# Altium footprint library temporary.PcbLib: 61 footprints (part 3 of 4)
Each footprint in its own frame and in the unit in brackets; x right, y up, seen from the top. Pads: shape width x height; smd on the part's side, far side on the other; paste and mask are expansions set on the pad; w line width, h text height; cw(c..) or ccw(c..) is an arc to the next point about the centre after c.
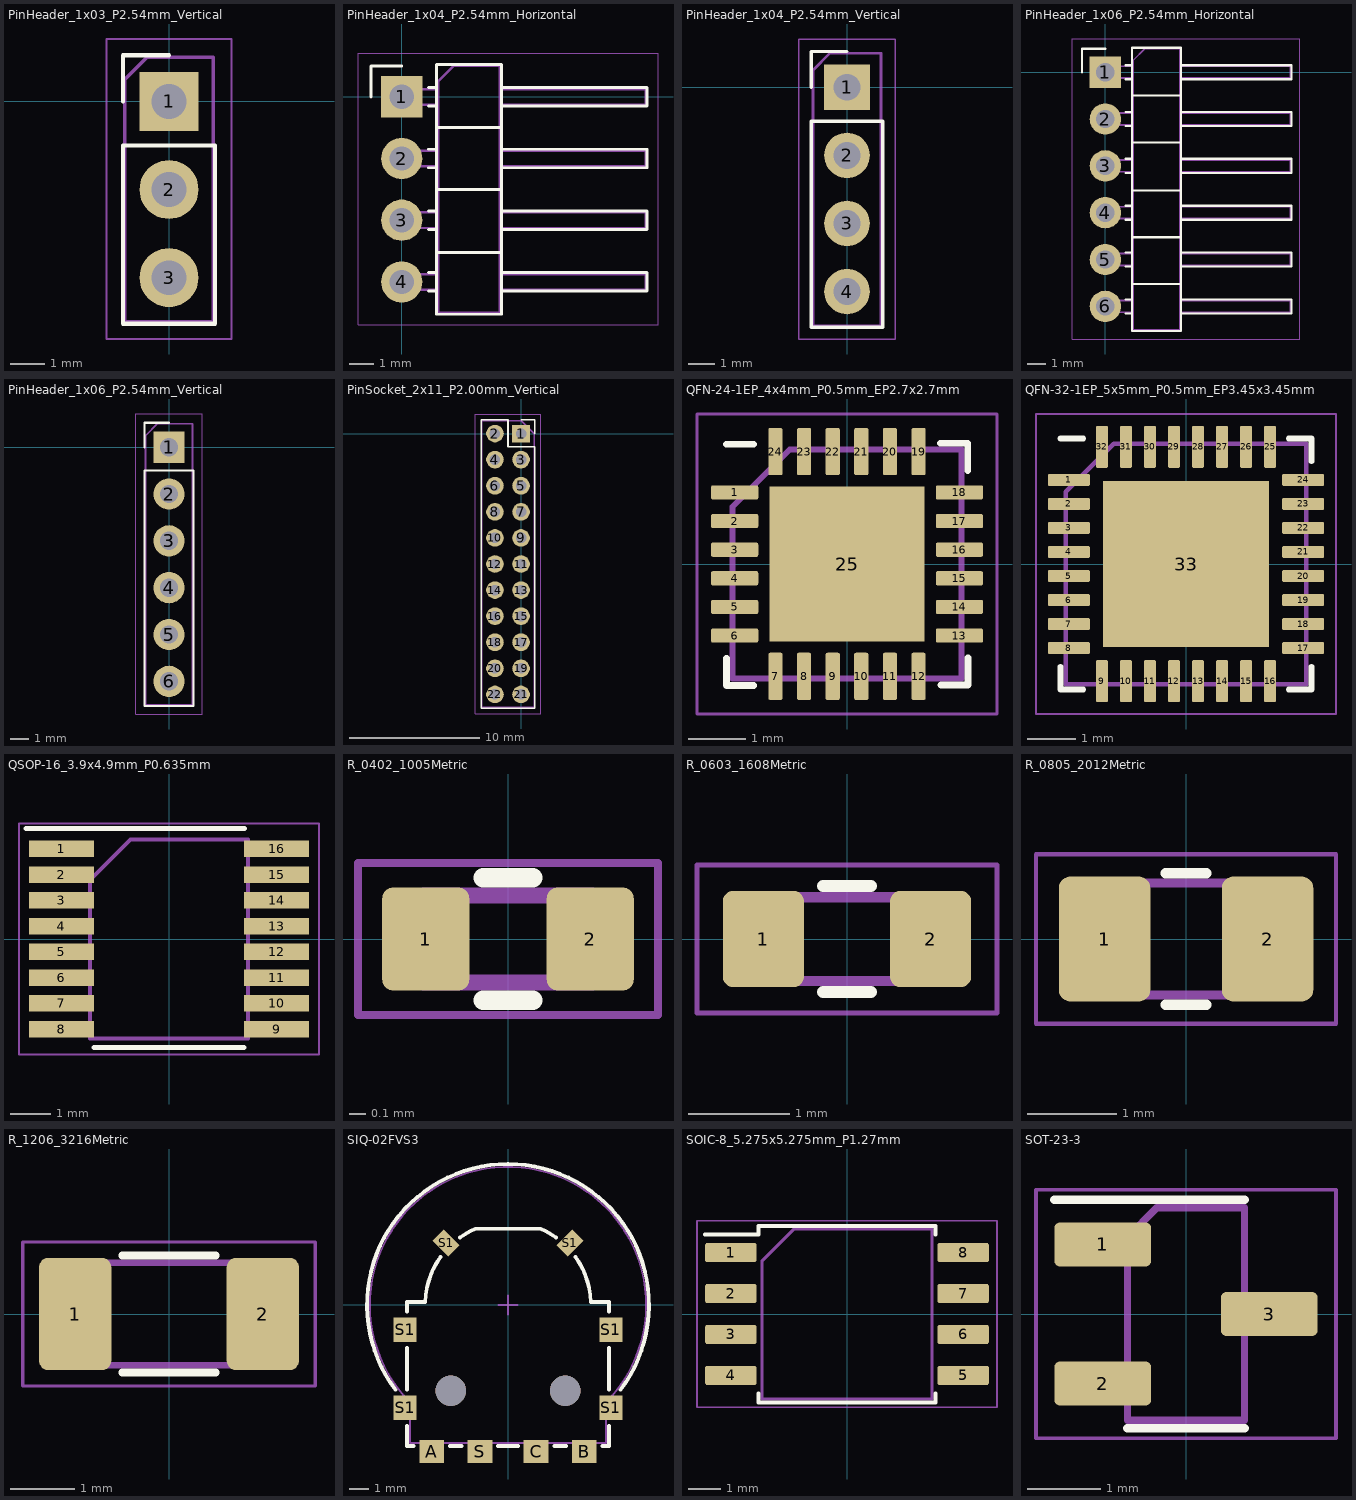
[diagram p2: the footprints below, top view; thin cyan lines are the x and y axes]

## PinHeader_1x03_P2.54mm_Vertical [mm]
pads (3):
  rect 1.7x1.7 hole 1: 1(0,0)
  round 1.7 hole 1: 2(0,-2.54) 3(0,-5.08)
Top Overlay:
  lines w0.12: -1.33,0 -1.33,1.33 0,1.33 ; -1.33,-6.41 -1.33,-1.27 1.33,-1.27 1.33,-6.41 -1.33,-6.41
Mechanical 13:
  lines w0.1: -1.27,-6.35 -1.27,0.635 -0.635,1.27 1.27,1.27 1.27,-6.35 -1.27,-6.35
Mechanical 15:
  lines w0.05: -1.8,-6.85 1.8,-6.85 1.8,1.8 -1.8,1.8 -1.8,-6.85
3D body "PinHeader_1x03_P2.54mm_Vertical.step": height 8.54, standoff -3, extent -1.27,-6.35 1.27,1.27

## PinHeader_1x04_P2.54mm_Horizontal [mm]
pads (4):
  rect 1.7x1.7 hole 1: 1(0,0)
  round 1.7 hole 1: 2(0,-2.54) 3(0,-5.08) 4(0,-7.62)
Top Overlay:
  lines w0.12: -1.27,0 -1.27,1.27 0,1.27 ; 1.11,-8 1.44,-8 ; 1.11,-7.24 1.44,-7.24 ; 1.11,-5.46 1.44,-5.46 ; 1.11,-4.7 1.44,-4.7 ; 1.11,-2.92 1.44,-2.92 ; 1.11,-2.16 1.44,-2.16 ; 1.11,-0.38 1.44,-0.38 ; 1.11,0.38 1.44,0.38 ; 1.44,-6.41 4.1,-6.41 ; 1.44,-3.81 4.1,-3.81 ; 1.44,-1.27 4.1,-1.27 ; 4.1,-8 10.1,-8 10.1,-7.24 4.1,-7.24 ; 4.1,-5.46 10.1,-5.46 10.1,-4.7 4.1,-4.7 ; 4.1,-2.92 10.1,-2.92 10.1,-2.16 4.1,-2.16 ; 4.1,-0.38 10.1,-0.38 10.1,0.38 4.1,0.38 ; 1.44,-8.95 4.1,-8.95 4.1,1.33 1.44,1.33 1.44,-8.95
Mechanical 13:
  lines w0.1: 1.5,-7.94 -0.32,-7.94 -0.32,-7.3 1.5,-7.3 ; 1.5,-5.4 -0.32,-5.4 -0.32,-4.76 1.5,-4.76 ; 1.5,-2.86 -0.32,-2.86 -0.32,-2.22 1.5,-2.22 ; 1.5,-0.32 -0.32,-0.32 -0.32,0.32 1.5,0.32 ; 4.04,-7.94 10.04,-7.94 10.04,-7.3 4.04,-7.3 ; 4.04,-5.4 10.04,-5.4 10.04,-4.76 4.04,-4.76 ; 4.04,-2.86 10.04,-2.86 10.04,-2.22 4.04,-2.22 ; 4.04,-0.32 10.04,-0.32 10.04,0.32 4.04,0.32 ; 1.5,-8.89 1.5,0.635 2.135,1.27 4.04,1.27 4.04,-8.89 1.5,-8.89
Mechanical 15:
  lines w0.05: -1.8,-9.39 -1.8,1.8 10.55,1.8 10.55,-9.39 -1.8,-9.39
3D body "PinHeader_1x04_P2.54mm_Horizontal.step": height 2.54, standoff -3, extent -0.32,-8.89 10.04,1.27

## PinHeader_1x04_P2.54mm_Vertical [mm]
pads (4):
  rect 1.7x1.7 hole 1: 1(0,0)
  round 1.7 hole 1: 2(0,-2.54) 3(0,-5.08) 4(0,-7.62)
Top Overlay:
  lines w0.12: -1.33,0 -1.33,1.33 0,1.33 ; -1.33,-8.95 -1.33,-1.27 1.33,-1.27 1.33,-8.95 -1.33,-8.95
Mechanical 13:
  lines w0.1: -1.27,-8.89 -1.27,0.635 -0.635,1.27 1.27,1.27 1.27,-8.89 -1.27,-8.89
Mechanical 15:
  lines w0.05: -1.8,-9.39 1.8,-9.39 1.8,1.8 -1.8,1.8 -1.8,-9.39
3D body "PinHeader_1x04_P2.54mm_Vertical.step": height 8.54, standoff -3, extent -1.27,-8.89 1.27,1.27

## PinHeader_1x06_P2.54mm_Horizontal [mm]
pads (6):
  rect 1.7x1.7 hole 1: 1(0,0)
  round 1.7 hole 1: 2(0,-2.54) 3(0,-5.08) 4(0,-7.62) 5(0,-10.16) 6(0,-12.7)
Top Overlay:
  lines w0.12: -1.27,0 -1.27,1.27 0,1.27 ; 1.11,-13.08 1.44,-13.08 ; 1.11,-12.32 1.44,-12.32 ; 1.11,-10.54 1.44,-10.54 ; 1.11,-9.78 1.44,-9.78 ; 1.11,-8 1.44,-8 ; 1.11,-7.24 1.44,-7.24 ; 1.11,-5.46 1.44,-5.46 ; 1.11,-4.7 1.44,-4.7 ; 1.11,-2.92 1.44,-2.92 ; 1.11,-2.16 1.44,-2.16 ; 1.11,-0.38 1.44,-0.38 ; 1.11,0.38 1.44,0.38 ; 1.44,-11.49 4.1,-11.49 ; 1.44,-8.95 4.1,-8.95 ; 1.44,-6.41 4.1,-6.41 ; 1.44,-3.81 4.1,-3.81 ; 1.44,-1.27 4.1,-1.27 ; 4.1,-13.08 10.1,-13.08 10.1,-12.32 4.1,-12.32 ; 4.1,-10.54 10.1,-10.54 10.1,-9.78 4.1,-9.78 ; 4.1,-8 10.1,-8 10.1,-7.24 4.1,-7.24 ; 4.1,-5.46 10.1,-5.46 10.1,-4.7 4.1,-4.7 ; 4.1,-2.92 10.1,-2.92 10.1,-2.16 4.1,-2.16 ; 4.1,-0.38 10.1,-0.38 10.1,0.38 4.1,0.38 ; 1.44,-14.03 4.1,-14.03 4.1,1.33 1.44,1.33 1.44,-14.03
Mechanical 13:
  lines w0.1: 1.5,-13.02 -0.32,-13.02 -0.32,-12.38 1.5,-12.38 ; 1.5,-10.48 -0.32,-10.48 -0.32,-9.84 1.5,-9.84 ; 1.5,-7.94 -0.32,-7.94 -0.32,-7.3 1.5,-7.3 ; 1.5,-5.4 -0.32,-5.4 -0.32,-4.76 1.5,-4.76 ; 1.5,-2.86 -0.32,-2.86 -0.32,-2.22 1.5,-2.22 ; 1.5,-0.32 -0.32,-0.32 -0.32,0.32 1.5,0.32 ; 4.04,-13.02 10.04,-13.02 10.04,-12.38 4.04,-12.38 ; 4.04,-10.48 10.04,-10.48 10.04,-9.84 4.04,-9.84 ; 4.04,-7.94 10.04,-7.94 10.04,-7.3 4.04,-7.3 ; 4.04,-5.4 10.04,-5.4 10.04,-4.76 4.04,-4.76 ; 4.04,-2.86 10.04,-2.86 10.04,-2.22 4.04,-2.22 ; 4.04,-0.32 10.04,-0.32 10.04,0.32 4.04,0.32 ; 1.5,-13.97 4.04,-13.97 4.04,1.27 2.135,1.27 1.5,0.635 1.5,-13.97
Mechanical 15:
  lines w0.05: -1.8,-14.47 10.55,-14.47 10.55,1.8 -1.8,1.8 -1.8,-14.47
3D body "PinHeader_1x06_P2.54mm_Horizontal.step": height 2.54, standoff -3, extent -0.32,-13.97 10.04,1.27

## PinHeader_1x06_P2.54mm_Vertical [mm]
pads (6):
  rect 1.7x1.7 hole 1: 1(0,0)
  round 1.7 hole 1: 2(0,-2.54) 3(0,-5.08) 4(0,-7.62) 5(0,-10.16) 6(0,-12.7)
Top Overlay:
  lines w0.12: -1.33,0 -1.33,1.33 0,1.33 ; -1.33,-14.03 -1.33,-1.27 1.33,-1.27 1.33,-14.03 -1.33,-14.03
Mechanical 13:
  lines w0.1: -1.27,-13.97 -1.27,0.635 -0.635,1.27 1.27,1.27 1.27,-13.97 -1.27,-13.97
Mechanical 15:
  lines w0.05: -1.8,-14.47 1.8,-14.47 1.8,1.8 -1.8,1.8 -1.8,-14.47
3D body "PinHeader_1x06_P2.54mm_Vertical.step": height 8.54, standoff -3, extent -1.27,-13.97 1.27,1.27

## PinSocket_2x11_P2.00mm_Vertical [mm]
pads (22):
  rect 1.35x1.35 hole 0.8: 1(0,0)
  round 1.35 hole 0.8: 2(-2,0) 3(0,-2) 4(-2,-2) 5(0,-4) 6(-2,-4) 7(0,-6) 8(-2,-6) 9(0,-8) 10(-2,-8) 11(0,-10) 12(-2,-10) 13(0,-12) 14(-2,-12) 15(0,-14) 16(-2,-14) 17(0,-16) 18(-2,-16) 19(0,-18) 20(-2,-18) 21(0,-20) 22(-2,-20)
Top Overlay:
  lines w0.12: 0,1.06 1.06,1.06 1.06,0 ; -3.06,-21.06 1.06,-21.06 1.06,-1 -1,-1 -1,1.06 -3.06,1.06 -3.06,-21.06
Mechanical 13:
  lines w0.1: -3,-21 1,-21 1,0 0,1 -3,1 -3,-21
Mechanical 15:
  lines w0.05: -3.5,-21.5 1.5,-21.5 1.5,1.5 -3.5,1.5 -3.5,-21.5
3D body "PinSocket_2x11_P2.00mm_Vertical.step": height 5.6, standoff -2.7, extent -3,-21 1,1

## QFN-24-1EP_4x4mm_P0.5mm_EP2.7x2.7mm [mm]
pads (25):
  rrect25% 0.825x0.25 smd: 1(-1.963,1.25) 2(-1.963,0.75) 3(-1.963,0.25) 4(-1.963,-0.25) 5(-1.963,-0.75) 6(-1.963,-1.25) 13(1.963,-1.25) 14(1.963,-0.75) 15(1.963,-0.25) 16(1.963,0.25) 17(1.963,0.75) 18(1.963,1.25)
  rrect25% 0.25x0.825 smd: 7(-1.25,-1.963) 8(-0.75,-1.963) 9(-0.25,-1.963) 10(0.25,-1.963) 11(0.75,-1.963) 12(1.25,-1.963) 19(1.25,1.963) 20(0.75,1.963) 21(0.25,1.963) 22(-0.25,1.963) 23(-0.75,1.963) 24(-1.25,1.963)
  rect 2.7x2.7 smd: 25(0,0)
Top Overlay:
  lines w0.12: -2.104,-1.646 -2.104,-2.121 -1.629,-2.121 ; -2.104,2.091 -1.629,2.091 ; 1.635,2.11 2.11,2.11 2.11,1.635 ; 1.641,-2.112 2.116,-2.112 2.116,-1.637
Mechanical 13:
  lines w0.1: -2,-2 -2,1 -1,2 2,2 2,-2 -2,-2
Mechanical 15:
  lines w0.05: -2.62,-2.62 -2.62,2.62 2.62,2.62 2.62,-2.62 -2.62,-2.62
3D body "QFN-24-1EP_4x4mm_P0.5mm_EP2.7x2.7mm.step": height 1.1, standoff 0, extent -2,-2 2,2

## QFN-32-1EP_5x5mm_P0.5mm_EP3.45x3.45mm [mm]
pads (33):
  rrect25% 0.875x0.25 smd: 1(-2.438,1.75) 2(-2.438,1.25) 3(-2.438,0.75) 4(-2.438,0.25) 5(-2.438,-0.25) 6(-2.438,-0.75) 7(-2.438,-1.25) 8(-2.438,-1.75) 17(2.438,-1.75) 18(2.438,-1.25) 19(2.438,-0.75) 20(2.438,-0.25) 21(2.438,0.25) 22(2.438,0.75) 23(2.438,1.25) 24(2.438,1.75)
  rrect25% 0.25x0.875 smd: 9(-1.75,-2.438) 10(-1.25,-2.438) 11(-0.75,-2.438) 12(-0.25,-2.438) 13(0.25,-2.438) 14(0.75,-2.438) 15(1.25,-2.438) 16(1.75,-2.438) 25(1.75,2.438) 26(1.25,2.438) 27(0.75,2.438) 28(0.25,2.438) 29(-0.25,2.438) 30(-0.75,2.438) 31(-1.25,2.438) 32(-1.75,2.438)
  rect 3.45x3.45 smd: 33(0,0)
Top Overlay:
  lines w0.12: -2.61,-2.135 -2.61,-2.61 -2.135,-2.61 ; -2.61,2.61 -2.135,2.61 ; 2.135,-2.61 2.61,-2.61 2.61,-2.135 ; 2.135,2.61 2.61,2.61 2.61,2.135
Mechanical 13:
  lines w0.1: -2.5,-2.5 2.5,-2.5 2.5,2.5 -1.5,2.5 -2.5,1.5 -2.5,-2.5
Mechanical 15:
  lines w0.05: -3.12,-3.12 3.12,-3.12 3.12,3.12 -3.12,3.12 -3.12,-3.12
3D body "QFN-32-1EP_5x5mm_P0.5mm_EP3.45x3.45mm.step": height 0.77, standoff 0, extent -2.5,-2.5 2.5,2.5

## QSOP-16_3.9x4.9mm_P0.635mm [mm]
pads (16):
  rect 1.6x0.41 smd: 1(-2.654,2.222) 2(-2.654,1.587) 3(-2.654,0.953) 4(-2.654,0.318) 5(-2.654,-0.318) 6(-2.654,-0.953) 7(-2.654,-1.587) 8(-2.654,-2.222) 9(2.654,-2.222) 10(2.654,-1.587) 11(2.654,-0.953) 12(2.654,-0.318) 13(2.654,0.318) 14(2.654,0.953) 15(2.654,1.587) 16(2.654,2.222)
Top Overlay:
  lines w0.12: -3.525,2.725 1.859,2.725 ; -1.854,-2.675 1.854,-2.675
Mechanical 13:
  lines w0.1: -1.95,-2.45 -1.95,1.45 -0.95,2.45 1.95,2.45 1.95,-2.45 -1.95,-2.45
Mechanical 15:
  lines w0.05: -3.7,-2.85 -3.7,2.85 3.7,2.85 3.7,-2.85 -3.7,-2.85
3D body "QSOP-16_3.9x4.9mm_P0.635mm.step": height 1.42, standoff 0, extent -3,-2.45 3,2.45

## R_0402_1005Metric [mm]
pads (2):
  rrect25% 0.54x0.64 smd: 1(-0.51,0) 2(0.51,0)
Top Overlay:
  lines w0.12: -0.154,-0.38 0.154,-0.38 ; -0.154,0.38 0.154,0.38
Mechanical 13:
  lines w0.1: -0.525,-0.27 0.525,-0.27 0.525,0.27 -0.525,0.27 -0.525,-0.27
Mechanical 15:
  lines w0.05: -0.93,-0.47 -0.93,0.47 0.93,0.47 0.93,-0.47 -0.93,-0.47
3D body "R_0402_1005Metric.step": height 0.35, standoff 0, extent -0.5,-0.25 0.5,0.25

## R_0603_1608Metric [mm]
pads (2):
  rrect25% 0.8x0.95 smd: 1(-0.825,0) 2(0.825,0)
Top Overlay:
  lines w0.12: -0.237,-0.523 0.237,-0.523 ; -0.237,0.523 0.237,0.523
Mechanical 13:
  lines w0.1: -0.8,-0.413 0.8,-0.413 0.8,0.413 -0.8,0.413 -0.8,-0.413
Mechanical 15:
  lines w0.05: -1.48,-0.73 -1.48,0.73 1.48,0.73 1.48,-0.73 -1.48,-0.73
3D body "R_0603_1608Metric.step": height 0.45, standoff 0, extent -0.8,-0.4 0.8,0.4

## R_0805_2012Metric [mm]
pads (2):
  rrect25% 1.025x1.4 smd: 1(-0.913,0) 2(0.913,0)
Top Overlay:
  lines w0.12: -0.227,-0.735 0.227,-0.735 ; -0.227,0.735 0.227,0.735
Mechanical 13:
  lines w0.1: -1,-0.625 -1,0.625 1,0.625 1,-0.625 -1,-0.625
Mechanical 15:
  lines w0.05: -1.68,-0.95 1.68,-0.95 1.68,0.95 -1.68,0.95 -1.68,-0.95
3D body "R_0805_2012Metric.step": height 0.45, standoff 0, extent -1,-0.6 1,0.6

## R_1206_3216Metric [mm]
pads (2):
  rrect25% 1.125x1.75 smd: 1(-1.462,0) 2(1.462,0)
Top Overlay:
  lines w0.12: -0.727,-0.91 0.727,-0.91 ; -0.727,0.91 0.727,0.91
Mechanical 13:
  lines w0.1: -1.6,-0.8 -1.6,0.8 1.6,0.8 1.6,-0.8 -1.6,-0.8
Mechanical 15:
  lines w0.05: -2.28,-1.12 -2.28,1.12 2.28,1.12 2.28,-1.12 -2.28,-1.12
3D body "R_1206_3216Metric.step": height 0.55, standoff 0, extent -1.6,-0.8 1.6,0.8

## SIQ-02FVS3 [mm]
height 4
pads (12):
  rect 1.3x1.2 smd: A(-4,-7.7) B(4,-7.7) C(1.475,-7.7) S(-1.475,-7.7)
  rect 1.2x1.3 smd: S1(-5.4,-5.4) S1(-5.4,-1.3) S1(5.4,-5.4) S1(5.4,-1.3)
  rect 0.85x1.2 smd rot 45: S1(-3.253,3.253)
  rect 0.85x1.2 smd rot 135: S1(3.253,3.253)
  round 1.6 hole 1.6 unplated: ""(-3,-4.5) ""(3,-4.5)
Top Overlay:
  lines w0.2: -5.912,-4.45 cw(c0,0) 5.912,-4.45 ; -5.3,-6.35 -5.3,-7.4 -4.95,-7.4 ; -5.3,-4.45 -5.3,-2.25 ; -5.3,-0.35 -5.3,0.15 -4.347,0.15 cw(c0,0) -3.546,2.52 ; -3.05,-7.4 -2.425,-7.4 ; -2.52,3.546 cw(c0,0) -1.71,4 1.71,4 cw(c0,0) 2.52,3.546 ; -0.525,-7.4 0.525,-7.4 ; 2.425,-7.4 3.05,-7.4 ; 3.546,2.52 cw(c0,0) 4.347,0.15 5.3,0.15 5.3,-0.35 ; 4.95,-7.4 5.3,-7.4 5.3,-6.35 ; 5.3,-4.45 5.3,-2.25
Mechanical 13:
  lines w0.1: -5.15,-7.25 -5.15,-5.103 cw(c0,0) 5.15,-5.103 5.15,-7.25 -5.15,-7.25
Mechanical 15:
  lines w0.1: -0.5,0 0.5,0 ; 0,-0.5 0,0.5
3D body "SIQ-02FVS3.step": height 4, standoff -0.5, extent -7.248,-7.26 7.248,7.21

## SOIC-8_5.275x5.275mm_P1.27mm [mm]
pads (8):
  rrect25% 1.6x0.6 smd: 1(-3.6,1.905) 2(-3.6,0.635) 3(-3.6,-0.635) 4(-3.6,-1.905) 5(3.6,-1.905) 6(3.6,-0.635) 7(3.6,0.635) 8(3.6,1.905)
Top Overlay:
  lines w0.12: -4.4,2.465 -2.748,2.465 -2.748,2.725 2.748,2.725 2.748,2.465 ; -2.748,-2.465 -2.748,-2.748 2.748,-2.748 2.748,-2.465
Mechanical 13:
  lines w0.1: -2.638,-2.638 2.638,-2.638 2.638,2.638 -1.637,2.638 -2.638,1.637 -2.638,-2.638
Mechanical 15:
  lines w0.05: -4.65,-2.89 4.65,-2.89 4.65,2.89 -4.65,2.89 -4.65,-2.89
3D body "SOIC-8_5.275x5.275mm_P1.27mm.step": height 2.05, standoff 0, extent -3.95,-2.638 3.95,2.638

## SOT-23-3 [mm]
pads (3):
  rrect25% 1.325x0.6 smd: 1(-1.138,0.95) 2(-1.138,-0.95) 3(1.138,0)
Top Overlay:
  lines w0.12: -1.8,1.56 0.8,1.56 ; -0.8,-1.56 0.8,-1.56
Mechanical 13:
  lines w0.1: -0.8,-1.45 0.8,-1.45 0.8,1.45 -0.4,1.45 -0.8,1.05 -0.8,-1.45
Mechanical 15:
  lines w0.05: -2.05,-1.7 -2.05,1.7 2.05,1.7 2.05,-1.7 -2.05,-1.7
3D body "SOT-23.step": height 1.2, standoff 0, extent -1.25,-1.5 1.25,1.5